# Altium schematic symbol library SCH - POWER - LINEAR VREG - TI TPS75633.SCHLIB: 1 symbol
Pins are listed as number, name and electrical type; pins without a type are passive.

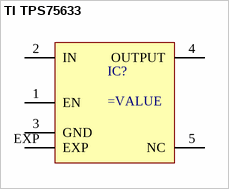
[diagram p0: symbol TI TPS75633]

## TI TPS75633
designator IC?
pins: 1 EN "Desc1", 2 IN "Desc1", 3 GND "Desc1", 4 OUTPUT "Desc1", 5 NC "Desc1", EXP "Desc1"